# Altium schematic symbol library DF14A-2P-1.25H_56_.SchLib: 1 symbol
Pins are listed as number, name and electrical type; pins without a type are passive.

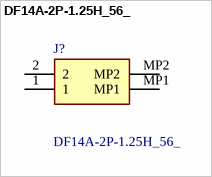
[diagram p0: symbol DF14A-2P-1.25H_56_]

## DF14A-2P-1.25H_56_
designator J?
HIROSE(HRS) - DF14A-2P-1.25H(56) - Wire-To-Board Connector, DF14 Series, Surface Mount, Header, 2, 1.25 mm, Gold Plated Contacts RoHS Compliant: Yes; Geometry.Height: 2.7mm; Mouser Part Number: 798-DF14A2P125H56; Mouser Price/Stock: https://www.mouser.co.uk/ProductDetail/Hirose-Connector/DF14A-2P-125H56?qs=zOgoZG1CgI9j0kPpVEP3mQ%3D%3D; Manufacturer_Name: Hirose; Manufacturer_Part_Number: DF14A-2P-1.25H(56); Datasheet Link: https://www.hirose.com/en/product/document?clcode=CL0538-0033-3-22&productname=DF14A-2P-1.25H(22)&series=DF14&documenttype=2DDrawing&lang=en&documentid=0001394359
footprint DF14A2P125H56
pins: 1, 2, MP1, MP2